# Altium schematic symbol library C3M0022120K.SchLib: 1 symbol
Pins are listed as number, name and electrical type; pins without a type are passive.

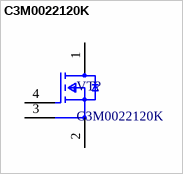
[diagram p0: symbol C3M0022120K]

## C3M0022120K
designator VT?
footprint FP-TO-247-4-B-MFG
footprint TO247-4-BEND-SHORT
footprint TO-247-4-BEND
pins: 1 Drain, 2 Power Source, 3 Driver Source, 4 Gate